# Altium footprint library CAP_CAN_TH_10mmLS22mmD.PcbLib: 1 footprints
Each footprint in its own frame and in the unit in brackets; x right, y up, seen from the top. Pads: shape width x height; smd on the part's side, far side on the other; paste and mask are expansions set on the pad; w line width, h text height; cw(c..) or ccw(c..) is an arc to the next point about the centre after c.
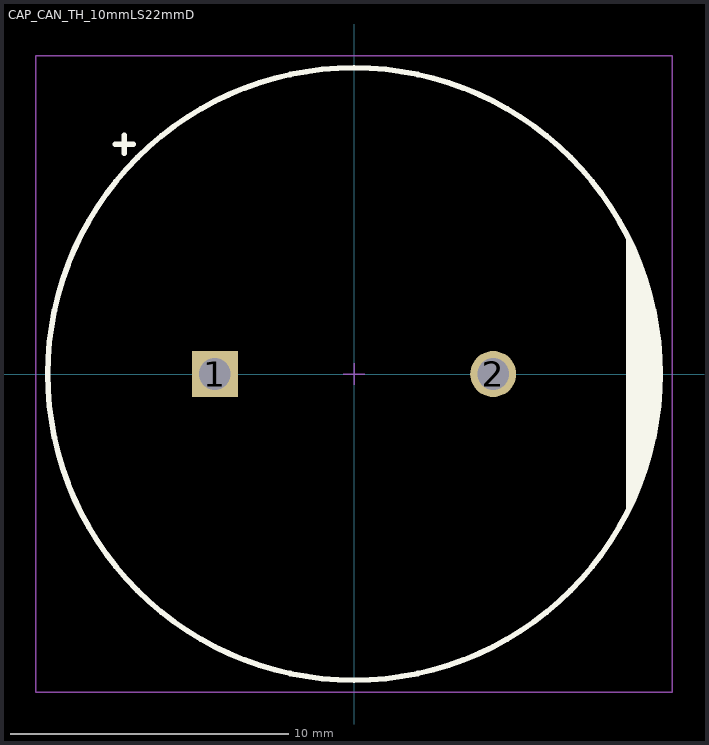
[diagram p0: the footprint, top view; thin cyan lines are the x and y axes]

## CAP_CAN_TH_10mmLS22mmD [mil]
pads (2):
  rect 65x65 hole 45: 1(-196.85,0)
  round 65 hole 45: 2(196.85,0)
Top Overlay:
  circle w7.87: c0,0 r433.07
  region: 385,190 385,-190 405,-150 425,-85 433.07,-30 433.07,25 425,75 410,135 395,175
  lines w7.87: -337.5,325 -312.5,325 ; -325,312.5 -325,337.5
Mechanical 15:
  lines w1.97: -15,0 15,0 ; 0,-15 0,15 ; -450,-450 -450,450 450,450 450,-450 -450,-450